# Altium footprint library QFN_Sq_50P_Side_M.PcbLib: 116 footprints (part 7 of 8)
Each footprint in its own frame and in the unit in brackets; x right, y up, seen from the top. Pads: shape width x height; smd on the part's side, far side on the other; paste and mask are expansions set on the pad; w line width, h text height; cw(c..) or ccw(c..) is an arc to the next point about the centre after c.
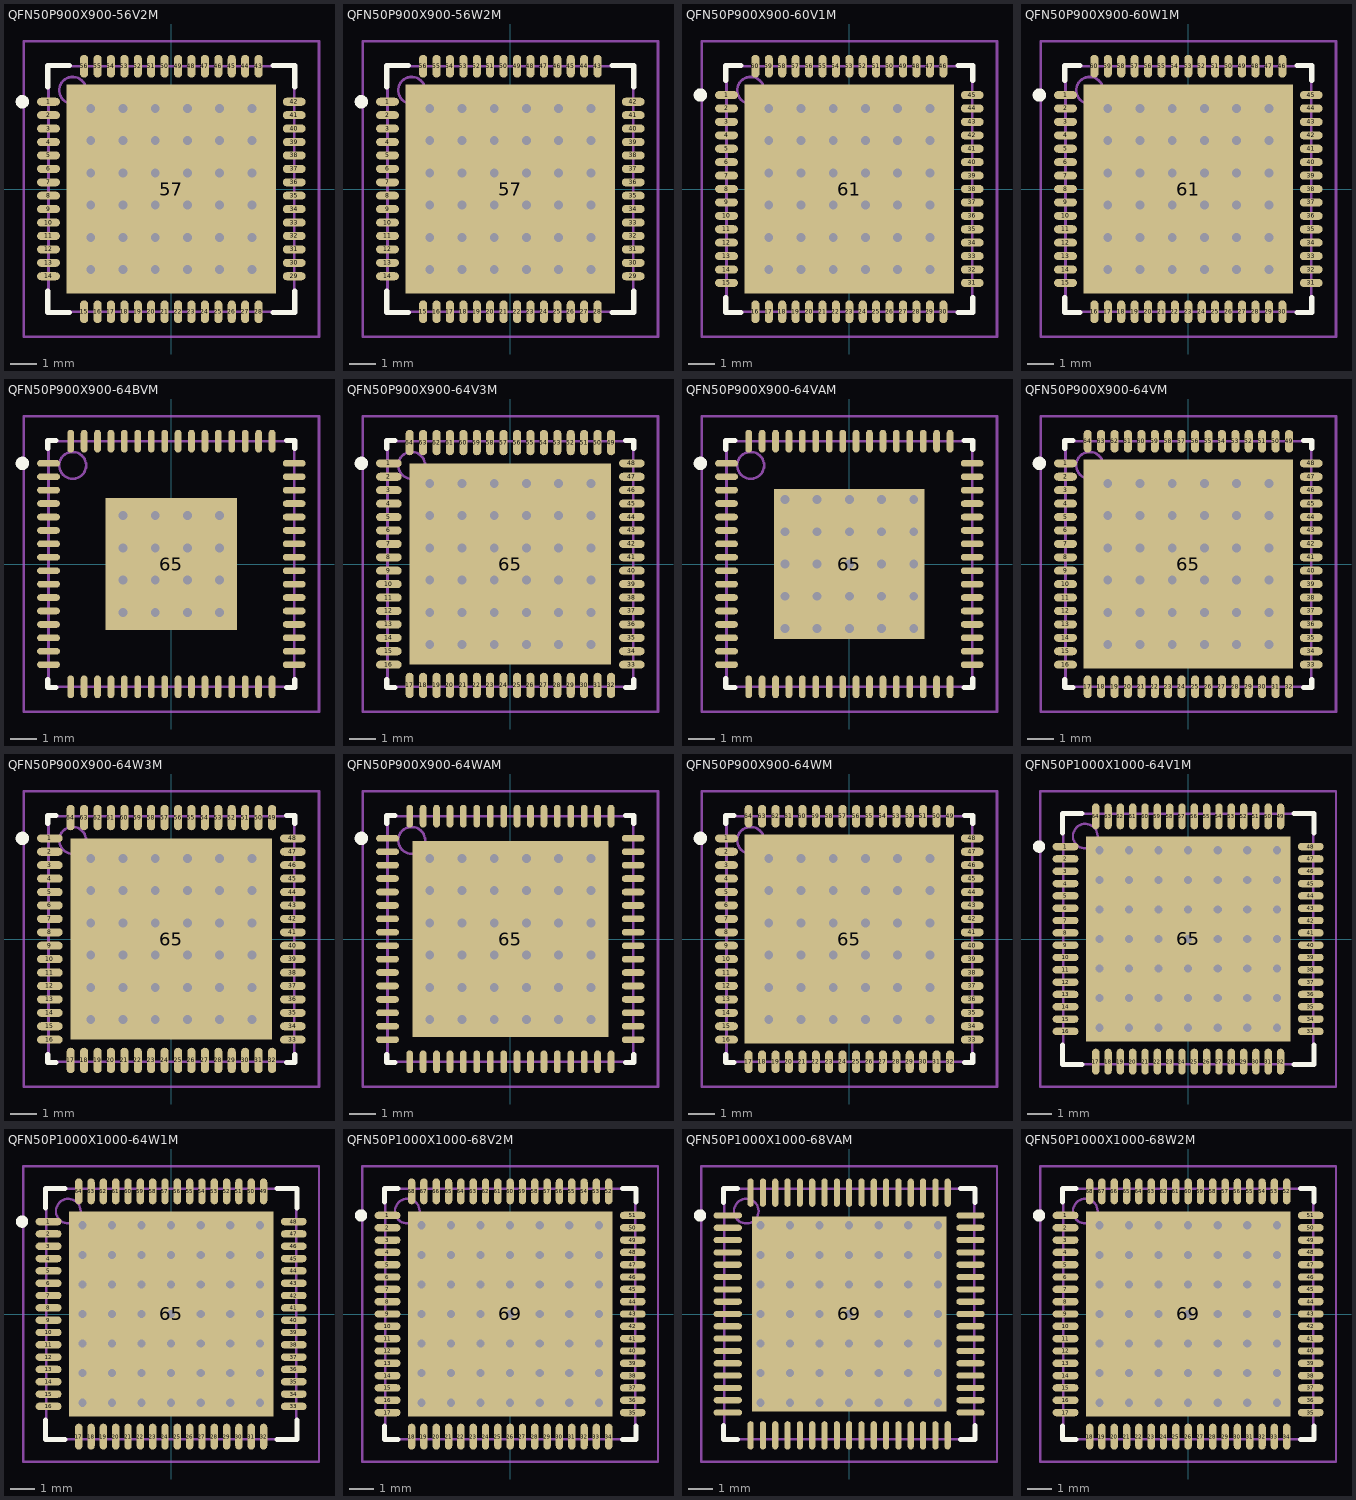
[diagram p6: the footprints below, top view; thin cyan lines are the x and y axes]

## QFN50P900X900-56V2M [mm] "QFN, 56-Leads, Body 9x9mm, Pitch 0.5mm, IPC Low Density"
height 1
pads (57):
  oval 0.85x0.3 smd: 1(-4.575,3.25) 2(-4.575,2.75) 3(-4.575,2.25) 4(-4.575,1.75) 5(-4.575,1.25) 6(-4.575,0.75) 7(-4.575,0.25) 8(-4.575,-0.25) 9(-4.575,-0.75) 10(-4.575,-1.25) 11(-4.575,-1.75) 12(-4.575,-2.25) 13(-4.575,-2.75) 14(-4.575,-3.25) 29(4.575,-3.25) 30(4.575,-2.75) 31(4.575,-2.25) 32(4.575,-1.75) 33(4.575,-1.25) 34(4.575,-0.75) 35(4.575,-0.25) 36(4.575,0.25) 37(4.575,0.75) 38(4.575,1.25) 39(4.575,1.75) 40(4.575,2.25) 41(4.575,2.75) 42(4.575,3.25)
  oval 0.3x0.85 smd: 15(-3.25,-4.575) 16(-2.75,-4.575) 17(-2.25,-4.575) 18(-1.75,-4.575) 19(-1.25,-4.575) 20(-0.75,-4.575) 21(-0.25,-4.575) 22(0.25,-4.575) 23(0.75,-4.575) 24(1.25,-4.575) 25(1.75,-4.575) 26(2.25,-4.575) 27(2.75,-4.575) 28(3.25,-4.575) 43(3.25,4.575) 44(2.75,4.575) 45(2.25,4.575) 46(1.75,4.575) 47(1.25,4.575) 48(0.75,4.575) 49(0.25,4.575) 50(-0.25,4.575) 51(-0.75,4.575) 52(-1.25,4.575) 53(-1.75,4.575) 54(-2.25,4.575) 55(-2.75,4.575) 56(-3.25,4.575)
  rect 7.8x7.8 smd: 57(0,0)
via -3,3 diameter 0.66 hole 0.33
via -1.8,3 diameter 0.66 hole 0.33
via -0.6,3 diameter 0.66 hole 0.33
via 0.6,3 diameter 0.66 hole 0.33
via 1.8,3 diameter 0.66 hole 0.33
via 3,3 diameter 0.66 hole 0.33
via -3,1.8 diameter 0.66 hole 0.33
via -1.8,1.8 diameter 0.66 hole 0.33
via -0.6,1.8 diameter 0.66 hole 0.33
via 0.6,1.8 diameter 0.66 hole 0.33
via 1.8,1.8 diameter 0.66 hole 0.33
via 3,1.8 diameter 0.66 hole 0.33
via -3,0.6 diameter 0.66 hole 0.33
via -1.8,0.6 diameter 0.66 hole 0.33
via -0.6,0.6 diameter 0.66 hole 0.33
via 0.6,0.6 diameter 0.66 hole 0.33
via 1.8,0.6 diameter 0.66 hole 0.33
via 3,0.6 diameter 0.66 hole 0.33
via -3,-0.6 diameter 0.66 hole 0.33
via -1.8,-0.6 diameter 0.66 hole 0.33
via -0.6,-0.6 diameter 0.66 hole 0.33
via 0.6,-0.6 diameter 0.66 hole 0.33
via 1.8,-0.6 diameter 0.66 hole 0.33
via 3,-0.6 diameter 0.66 hole 0.33
via -3,-1.8 diameter 0.66 hole 0.33
via -1.8,-1.8 diameter 0.66 hole 0.33
via -0.6,-1.8 diameter 0.66 hole 0.33
via 0.6,-1.8 diameter 0.66 hole 0.33
via 1.8,-1.8 diameter 0.66 hole 0.33
via 3,-1.8 diameter 0.66 hole 0.33
via -3,-3 diameter 0.66 hole 0.33
via -1.8,-3 diameter 0.66 hole 0.33
via -0.6,-3 diameter 0.66 hole 0.33
via 0.6,-3 diameter 0.66 hole 0.33
via 1.8,-3 diameter 0.66 hole 0.33
via 3,-3 diameter 0.66 hole 0.33
Top Overlay:
  circle w0.25: c-5.55,3.25 r0.125
  lines w0.2: -4.6,-3.8 -4.6,-4.6 -3.8,-4.6 ; -4.6,3.8 -4.6,4.6 -3.8,4.6 ; 3.8,-4.6 4.6,-4.6 4.6,-3.8 ; 3.8,4.6 4.6,4.6 4.6,3.8
Mechanical 13:
  circle w0.1: c-3.675,3.675 r0.5
  lines w0.1: -4.575,-4.575 -4.575,4.575 4.575,4.575 4.575,-4.575 -4.575,-4.575
Mechanical 15:
  lines w0.1: -0.5,0 0.5,0 ; 0,-0.5 0,0.5 ; -5.5,-5.5 -5.5,5.5 5.5,5.5 5.5,-5.5 -5.5,-5.5
3D body: height 1, standoff 0, extent -4.575,-4.575 4.575,4.575

## QFN50P900X900-56W2M [mm] "QFN, 56-Leads, Body 9x9mm, Pitch 0.5mm, IPC Low Density"
height 0.8
pads (57):
  oval 0.85x0.3 smd: 1(-4.575,3.25) 2(-4.575,2.75) 3(-4.575,2.25) 4(-4.575,1.75) 5(-4.575,1.25) 6(-4.575,0.75) 7(-4.575,0.25) 8(-4.575,-0.25) 9(-4.575,-0.75) 10(-4.575,-1.25) 11(-4.575,-1.75) 12(-4.575,-2.25) 13(-4.575,-2.75) 14(-4.575,-3.25) 29(4.575,-3.25) 30(4.575,-2.75) 31(4.575,-2.25) 32(4.575,-1.75) 33(4.575,-1.25) 34(4.575,-0.75) 35(4.575,-0.25) 36(4.575,0.25) 37(4.575,0.75) 38(4.575,1.25) 39(4.575,1.75) 40(4.575,2.25) 41(4.575,2.75) 42(4.575,3.25)
  oval 0.3x0.85 smd: 15(-3.25,-4.575) 16(-2.75,-4.575) 17(-2.25,-4.575) 18(-1.75,-4.575) 19(-1.25,-4.575) 20(-0.75,-4.575) 21(-0.25,-4.575) 22(0.25,-4.575) 23(0.75,-4.575) 24(1.25,-4.575) 25(1.75,-4.575) 26(2.25,-4.575) 27(2.75,-4.575) 28(3.25,-4.575) 43(3.25,4.575) 44(2.75,4.575) 45(2.25,4.575) 46(1.75,4.575) 47(1.25,4.575) 48(0.75,4.575) 49(0.25,4.575) 50(-0.25,4.575) 51(-0.75,4.575) 52(-1.25,4.575) 53(-1.75,4.575) 54(-2.25,4.575) 55(-2.75,4.575) 56(-3.25,4.575)
  rect 7.8x7.8 smd: 57(0,0)
via -3,3 diameter 0.66 hole 0.33
via -1.8,3 diameter 0.66 hole 0.33
via -0.6,3 diameter 0.66 hole 0.33
via 0.6,3 diameter 0.66 hole 0.33
via 1.8,3 diameter 0.66 hole 0.33
via 3,3 diameter 0.66 hole 0.33
via -3,1.8 diameter 0.66 hole 0.33
via -1.8,1.8 diameter 0.66 hole 0.33
via -0.6,1.8 diameter 0.66 hole 0.33
via 0.6,1.8 diameter 0.66 hole 0.33
via 1.8,1.8 diameter 0.66 hole 0.33
via 3,1.8 diameter 0.66 hole 0.33
via -3,0.6 diameter 0.66 hole 0.33
via -1.8,0.6 diameter 0.66 hole 0.33
via -0.6,0.6 diameter 0.66 hole 0.33
via 0.6,0.6 diameter 0.66 hole 0.33
via 1.8,0.6 diameter 0.66 hole 0.33
via 3,0.6 diameter 0.66 hole 0.33
via -3,-0.6 diameter 0.66 hole 0.33
via -1.8,-0.6 diameter 0.66 hole 0.33
via -0.6,-0.6 diameter 0.66 hole 0.33
via 0.6,-0.6 diameter 0.66 hole 0.33
via 1.8,-0.6 diameter 0.66 hole 0.33
via 3,-0.6 diameter 0.66 hole 0.33
via -3,-1.8 diameter 0.66 hole 0.33
via -1.8,-1.8 diameter 0.66 hole 0.33
via -0.6,-1.8 diameter 0.66 hole 0.33
via 0.6,-1.8 diameter 0.66 hole 0.33
via 1.8,-1.8 diameter 0.66 hole 0.33
via 3,-1.8 diameter 0.66 hole 0.33
via -3,-3 diameter 0.66 hole 0.33
via -1.8,-3 diameter 0.66 hole 0.33
via -0.6,-3 diameter 0.66 hole 0.33
via 0.6,-3 diameter 0.66 hole 0.33
via 1.8,-3 diameter 0.66 hole 0.33
via 3,-3 diameter 0.66 hole 0.33
Top Overlay:
  circle w0.25: c-5.55,3.25 r0.125
  lines w0.2: -4.6,-3.8 -4.6,-4.6 -3.8,-4.6 ; -4.6,3.8 -4.6,4.6 -3.8,4.6 ; 3.8,-4.6 4.6,-4.6 4.6,-3.8 ; 3.8,4.6 4.6,4.6 4.6,3.8
Mechanical 13:
  circle w0.1: c-3.675,3.675 r0.5
  lines w0.1: -4.575,-4.575 -4.575,4.575 4.575,4.575 4.575,-4.575 -4.575,-4.575
Mechanical 15:
  lines w0.1: -0.5,0 0.5,0 ; 0,-0.5 0,0.5 ; -5.5,-5.5 -5.5,5.5 5.5,5.5 5.5,-5.5 -5.5,-5.5
3D body: height 0.8, standoff 0, extent -4.575,-4.575 4.575,4.575

## QFN50P900X900-60V1M [mm] "QFN, 60-Leads, Body 9x9mm, Pitch 0.5mm, IPC Low Density"
height 1
pads (61):
  oval 0.85x0.3 smd: 1(-4.575,3.5) 2(-4.575,3) 3(-4.575,2.5) 4(-4.575,2) 5(-4.575,1.5) 6(-4.575,1) 7(-4.575,0.5) 8(-4.575,0) 9(-4.575,-0.5) 10(-4.575,-1) 11(-4.575,-1.5) 12(-4.575,-2) 13(-4.575,-2.5) 14(-4.575,-3) 15(-4.575,-3.5) 31(4.575,-3.5) 32(4.575,-3) 33(4.575,-2.5) 34(4.575,-2) 35(4.575,-1.5) 36(4.575,-1) 37(4.575,-0.5) 38(4.575,0) 39(4.575,0.5) 40(4.575,1) 41(4.575,1.5) 42(4.575,2) 43(4.575,2.5) 44(4.575,3) 45(4.575,3.5)
  oval 0.3x0.85 smd: 16(-3.5,-4.575) 17(-3,-4.575) 18(-2.5,-4.575) 19(-2,-4.575) 20(-1.5,-4.575) 21(-1,-4.575) 22(-0.5,-4.575) 23(0,-4.575) 24(0.5,-4.575) 25(1,-4.575) 26(1.5,-4.575) 27(2,-4.575) 28(2.5,-4.575) 29(3,-4.575) 30(3.5,-4.575) 46(3.5,4.575) 47(3,4.575) 48(2.5,4.575) 49(2,4.575) 50(1.5,4.575) 51(1,4.575) 52(0.5,4.575) 53(0,4.575) 54(-0.5,4.575) 55(-1,4.575) 56(-1.5,4.575) 57(-2,4.575) 58(-2.5,4.575) 59(-3,4.575) 60(-3.5,4.575)
  rect 7.8x7.8 smd: 61(0,0)
via -3,3 diameter 0.66 hole 0.33
via -1.8,3 diameter 0.66 hole 0.33
via -0.6,3 diameter 0.66 hole 0.33
via 0.6,3 diameter 0.66 hole 0.33
via 1.8,3 diameter 0.66 hole 0.33
via 3,3 diameter 0.66 hole 0.33
via -3,1.8 diameter 0.66 hole 0.33
via -1.8,1.8 diameter 0.66 hole 0.33
via -0.6,1.8 diameter 0.66 hole 0.33
via 0.6,1.8 diameter 0.66 hole 0.33
via 1.8,1.8 diameter 0.66 hole 0.33
via 3,1.8 diameter 0.66 hole 0.33
via -3,0.6 diameter 0.66 hole 0.33
via -1.8,0.6 diameter 0.66 hole 0.33
via -0.6,0.6 diameter 0.66 hole 0.33
via 0.6,0.6 diameter 0.66 hole 0.33
via 1.8,0.6 diameter 0.66 hole 0.33
via 3,0.6 diameter 0.66 hole 0.33
via -3,-0.6 diameter 0.66 hole 0.33
via -1.8,-0.6 diameter 0.66 hole 0.33
via -0.6,-0.6 diameter 0.66 hole 0.33
via 0.6,-0.6 diameter 0.66 hole 0.33
via 1.8,-0.6 diameter 0.66 hole 0.33
via 3,-0.6 diameter 0.66 hole 0.33
via -3,-1.8 diameter 0.66 hole 0.33
via -1.8,-1.8 diameter 0.66 hole 0.33
via -0.6,-1.8 diameter 0.66 hole 0.33
via 0.6,-1.8 diameter 0.66 hole 0.33
via 1.8,-1.8 diameter 0.66 hole 0.33
via 3,-1.8 diameter 0.66 hole 0.33
via -3,-3 diameter 0.66 hole 0.33
via -1.8,-3 diameter 0.66 hole 0.33
via -0.6,-3 diameter 0.66 hole 0.33
via 0.6,-3 diameter 0.66 hole 0.33
via 1.8,-3 diameter 0.66 hole 0.33
via 3,-3 diameter 0.66 hole 0.33
Top Overlay:
  circle w0.25: c-5.55,3.5 r0.125
  lines w0.2: -4.6,-4.05 -4.6,-4.6 -4.05,-4.6 ; -4.6,4.05 -4.6,4.6 -4.05,4.6 ; 4.05,-4.6 4.6,-4.6 4.6,-4.05 ; 4.05,4.6 4.6,4.6 4.6,4.05
Mechanical 13:
  circle w0.1: c-3.675,3.675 r0.5
  lines w0.1: -4.575,-4.575 -4.575,4.575 4.575,4.575 4.575,-4.575 -4.575,-4.575
Mechanical 15:
  lines w0.1: -0.5,0 0.5,0 ; 0,-0.5 0,0.5 ; -5.5,-5.5 -5.5,5.5 5.5,5.5 5.5,-5.5 -5.5,-5.5
3D body: height 1, standoff 0, extent -4.575,-4.575 4.575,4.575

## QFN50P900X900-60W1M [mm] "QFN, 60-Leads, Body 9x9mm, Pitch 0.5mm, IPC Low Density"
height 0.8
pads (61):
  oval 0.85x0.3 smd: 1(-4.575,3.5) 2(-4.575,3) 3(-4.575,2.5) 4(-4.575,2) 5(-4.575,1.5) 6(-4.575,1) 7(-4.575,0.5) 8(-4.575,0) 9(-4.575,-0.5) 10(-4.575,-1) 11(-4.575,-1.5) 12(-4.575,-2) 13(-4.575,-2.5) 14(-4.575,-3) 15(-4.575,-3.5) 31(4.575,-3.5) 32(4.575,-3) 33(4.575,-2.5) 34(4.575,-2) 35(4.575,-1.5) 36(4.575,-1) 37(4.575,-0.5) 38(4.575,0) 39(4.575,0.5) 40(4.575,1) 41(4.575,1.5) 42(4.575,2) 43(4.575,2.5) 44(4.575,3) 45(4.575,3.5)
  oval 0.3x0.85 smd: 16(-3.5,-4.575) 17(-3,-4.575) 18(-2.5,-4.575) 19(-2,-4.575) 20(-1.5,-4.575) 21(-1,-4.575) 22(-0.5,-4.575) 23(0,-4.575) 24(0.5,-4.575) 25(1,-4.575) 26(1.5,-4.575) 27(2,-4.575) 28(2.5,-4.575) 29(3,-4.575) 30(3.5,-4.575) 46(3.5,4.575) 47(3,4.575) 48(2.5,4.575) 49(2,4.575) 50(1.5,4.575) 51(1,4.575) 52(0.5,4.575) 53(0,4.575) 54(-0.5,4.575) 55(-1,4.575) 56(-1.5,4.575) 57(-2,4.575) 58(-2.5,4.575) 59(-3,4.575) 60(-3.5,4.575)
  rect 7.8x7.8 smd: 61(0,0)
via -3,3 diameter 0.66 hole 0.33
via -1.8,3 diameter 0.66 hole 0.33
via -0.6,3 diameter 0.66 hole 0.33
via 0.6,3 diameter 0.66 hole 0.33
via 1.8,3 diameter 0.66 hole 0.33
via 3,3 diameter 0.66 hole 0.33
via -3,1.8 diameter 0.66 hole 0.33
via -1.8,1.8 diameter 0.66 hole 0.33
via -0.6,1.8 diameter 0.66 hole 0.33
via 0.6,1.8 diameter 0.66 hole 0.33
via 1.8,1.8 diameter 0.66 hole 0.33
via 3,1.8 diameter 0.66 hole 0.33
via -3,0.6 diameter 0.66 hole 0.33
via -1.8,0.6 diameter 0.66 hole 0.33
via -0.6,0.6 diameter 0.66 hole 0.33
via 0.6,0.6 diameter 0.66 hole 0.33
via 1.8,0.6 diameter 0.66 hole 0.33
via 3,0.6 diameter 0.66 hole 0.33
via -3,-0.6 diameter 0.66 hole 0.33
via -1.8,-0.6 diameter 0.66 hole 0.33
via -0.6,-0.6 diameter 0.66 hole 0.33
via 0.6,-0.6 diameter 0.66 hole 0.33
via 1.8,-0.6 diameter 0.66 hole 0.33
via 3,-0.6 diameter 0.66 hole 0.33
via -3,-1.8 diameter 0.66 hole 0.33
via -1.8,-1.8 diameter 0.66 hole 0.33
via -0.6,-1.8 diameter 0.66 hole 0.33
via 0.6,-1.8 diameter 0.66 hole 0.33
via 1.8,-1.8 diameter 0.66 hole 0.33
via 3,-1.8 diameter 0.66 hole 0.33
via -3,-3 diameter 0.66 hole 0.33
via -1.8,-3 diameter 0.66 hole 0.33
via -0.6,-3 diameter 0.66 hole 0.33
via 0.6,-3 diameter 0.66 hole 0.33
via 1.8,-3 diameter 0.66 hole 0.33
via 3,-3 diameter 0.66 hole 0.33
Top Overlay:
  circle w0.25: c-5.55,3.5 r0.125
  lines w0.2: -4.6,-4.05 -4.6,-4.6 -4.05,-4.6 ; -4.6,4.05 -4.6,4.6 -4.05,4.6 ; 4.05,-4.6 4.6,-4.6 4.6,-4.05 ; 4.05,4.6 4.6,4.6 4.6,4.05
Mechanical 13:
  circle w0.1: c-3.675,3.675 r0.5
  lines w0.1: -4.575,-4.575 -4.575,4.575 4.575,4.575 4.575,-4.575 -4.575,-4.575
Mechanical 15:
  lines w0.1: -0.5,0 0.5,0 ; 0,-0.5 0,0.5 ; -5.5,-5.5 -5.5,5.5 5.5,5.5 5.5,-5.5 -5.5,-5.5
3D body: height 0.8, standoff 0, extent -4.575,-4.575 4.575,4.575

## QFN50P900X900-64BVM [mm] "QFN, 64-Leads, Body 9x9mm, Pitch 0.5mm, IPC Low Density"
height 1
pads (65):
  oval 0.85x0.25 smd: 1(-4.575,3.75) 2(-4.575,3.25) 3(-4.575,2.75) 4(-4.575,2.25) 5(-4.575,1.75) 6(-4.575,1.25) 7(-4.575,0.75) 8(-4.575,0.25) 9(-4.575,-0.25) 10(-4.575,-0.75) 11(-4.575,-1.25) 12(-4.575,-1.75) 13(-4.575,-2.25) 14(-4.575,-2.75) 15(-4.575,-3.25) 16(-4.575,-3.75) 33(4.575,-3.75) 34(4.575,-3.25) 35(4.575,-2.75) 36(4.575,-2.25) 37(4.575,-1.75) 38(4.575,-1.25) 39(4.575,-0.75) 40(4.575,-0.25) 41(4.575,0.25) 42(4.575,0.75) 43(4.575,1.25) 44(4.575,1.75) 45(4.575,2.25) 46(4.575,2.75) 47(4.575,3.25) 48(4.575,3.75)
  oval 0.25x0.85 smd: 17(-3.75,-4.575) 18(-3.25,-4.575) 19(-2.75,-4.575) 20(-2.25,-4.575) 21(-1.75,-4.575) 22(-1.25,-4.575) 23(-0.75,-4.575) 24(-0.25,-4.575) 25(0.25,-4.575) 26(0.75,-4.575) 27(1.25,-4.575) 28(1.75,-4.575) 29(2.25,-4.575) 30(2.75,-4.575) 31(3.25,-4.575) 32(3.75,-4.575) 49(3.75,4.575) 50(3.25,4.575) 51(2.75,4.575) 52(2.25,4.575) 53(1.75,4.575) 54(1.25,4.575) 55(0.75,4.575) 56(0.25,4.575) 57(-0.25,4.575) 58(-0.75,4.575) 59(-1.25,4.575) 60(-1.75,4.575) 61(-2.25,4.575) 62(-2.75,4.575) 63(-3.25,4.575) 64(-3.75,4.575)
  rect 4.9x4.9 smd: 65(0,0)
via 1.8,-1.8 diameter 0.66 hole 0.33
via 0.6,-1.8 diameter 0.66 hole 0.33
via -0.6,-1.8 diameter 0.66 hole 0.33
via -1.8,-1.8 diameter 0.66 hole 0.33
via 1.8,-0.6 diameter 0.66 hole 0.33
via 0.6,-0.6 diameter 0.66 hole 0.33
via -0.6,-0.6 diameter 0.66 hole 0.33
via -1.8,-0.6 diameter 0.66 hole 0.33
via 1.8,0.6 diameter 0.66 hole 0.33
via 0.6,0.6 diameter 0.66 hole 0.33
via -0.6,0.6 diameter 0.66 hole 0.33
via -1.8,0.6 diameter 0.66 hole 0.33
via 1.8,1.8 diameter 0.66 hole 0.33
via 0.6,1.8 diameter 0.66 hole 0.33
via -0.6,1.8 diameter 0.66 hole 0.33
via -1.8,1.8 diameter 0.66 hole 0.33
Top Overlay:
  circle w0.25: c-5.55,3.75 r0.125
  lines w0.2: -4.6,-4.3 -4.6,-4.6 -4.3,-4.6 ; -4.6,4.3 -4.6,4.6 -4.3,4.6 ; 4.3,-4.6 4.6,-4.6 4.6,-4.3 ; 4.3,4.6 4.6,4.6 4.6,4.3
Mechanical 13:
  circle w0.1: c-3.675,3.675 r0.5
  lines w0.1: -4.575,-4.575 4.575,-4.575 4.575,4.575 -4.575,4.575 -4.575,-4.575
Mechanical 15:
  lines w0.1: -0.5,0 0.5,0 ; 0,-0.5 0,0.5 ; -5.5,-5.5 5.5,-5.5 5.5,5.5 -5.5,5.5 -5.5,-5.5
3D body: height 0.8, standoff 0, extent -4.575,-4.575 4.575,4.575

## QFN50P900X900-64V3M [mm] "QFN, 64-Leads, Body 9x9mm, Pitch 0.5mm, IPC Low Density"
height 1
pads (65):
  oval 0.95x0.3 smd: 1(-4.525,3.75) 2(-4.525,3.25) 3(-4.525,2.75) 4(-4.525,2.25) 5(-4.525,1.75) 6(-4.525,1.25) 7(-4.525,0.75) 8(-4.525,0.25) 9(-4.525,-0.25) 10(-4.525,-0.75) 11(-4.525,-1.25) 12(-4.525,-1.75) 13(-4.525,-2.25) 14(-4.525,-2.75) 15(-4.525,-3.25) 16(-4.525,-3.75) 33(4.525,-3.75) 34(4.525,-3.25) 35(4.525,-2.75) 36(4.525,-2.25) 37(4.525,-1.75) 38(4.525,-1.25) 39(4.525,-0.75) 40(4.525,-0.25) 41(4.525,0.25) 42(4.525,0.75) 43(4.525,1.25) 44(4.525,1.75) 45(4.525,2.25) 46(4.525,2.75) 47(4.525,3.25) 48(4.525,3.75)
  oval 0.3x0.95 smd: 17(-3.75,-4.525) 18(-3.25,-4.525) 19(-2.75,-4.525) 20(-2.25,-4.525) 21(-1.75,-4.525) 22(-1.25,-4.525) 23(-0.75,-4.525) 24(-0.25,-4.525) 25(0.25,-4.525) 26(0.75,-4.525) 27(1.25,-4.525) 28(1.75,-4.525) 29(2.25,-4.525) 30(2.75,-4.525) 31(3.25,-4.525) 32(3.75,-4.525) 49(3.75,4.525) 50(3.25,4.525) 51(2.75,4.525) 52(2.25,4.525) 53(1.75,4.525) 54(1.25,4.525) 55(0.75,4.525) 56(0.25,4.525) 57(-0.25,4.525) 58(-0.75,4.525) 59(-1.25,4.525) 60(-1.75,4.525) 61(-2.25,4.525) 62(-2.75,4.525) 63(-3.25,4.525) 64(-3.75,4.525)
  rect 7.5x7.5 smd: 65(0,0)
via -3,3 diameter 0.66 hole 0.33
via -1.8,3 diameter 0.66 hole 0.33
via -0.6,3 diameter 0.66 hole 0.33
via 0.6,3 diameter 0.66 hole 0.33
via 1.8,3 diameter 0.66 hole 0.33
via 3,3 diameter 0.66 hole 0.33
via -3,1.8 diameter 0.66 hole 0.33
via -1.8,1.8 diameter 0.66 hole 0.33
via -0.6,1.8 diameter 0.66 hole 0.33
via 0.6,1.8 diameter 0.66 hole 0.33
via 1.8,1.8 diameter 0.66 hole 0.33
via 3,1.8 diameter 0.66 hole 0.33
via -3,0.6 diameter 0.66 hole 0.33
via -1.8,0.6 diameter 0.66 hole 0.33
via -0.6,0.6 diameter 0.66 hole 0.33
via 0.6,0.6 diameter 0.66 hole 0.33
via 1.8,0.6 diameter 0.66 hole 0.33
via 3,0.6 diameter 0.66 hole 0.33
via -3,-0.6 diameter 0.66 hole 0.33
via -1.8,-0.6 diameter 0.66 hole 0.33
via -0.6,-0.6 diameter 0.66 hole 0.33
via 0.6,-0.6 diameter 0.66 hole 0.33
via 1.8,-0.6 diameter 0.66 hole 0.33
via 3,-0.6 diameter 0.66 hole 0.33
via -3,-1.8 diameter 0.66 hole 0.33
via -1.8,-1.8 diameter 0.66 hole 0.33
via -0.6,-1.8 diameter 0.66 hole 0.33
via 0.6,-1.8 diameter 0.66 hole 0.33
via 1.8,-1.8 diameter 0.66 hole 0.33
via 3,-1.8 diameter 0.66 hole 0.33
via -3,-3 diameter 0.66 hole 0.33
via -1.8,-3 diameter 0.66 hole 0.33
via -0.6,-3 diameter 0.66 hole 0.33
via 0.6,-3 diameter 0.66 hole 0.33
via 1.8,-3 diameter 0.66 hole 0.33
via 3,-3 diameter 0.66 hole 0.33
Top Overlay:
  circle w0.25: c-5.55,3.75 r0.125
  lines w0.2: -4.6,-4.3 -4.6,-4.6 -4.3,-4.6 ; -4.6,4.3 -4.6,4.6 -4.3,4.6 ; 4.3,-4.6 4.6,-4.6 4.6,-4.3 ; 4.3,4.6 4.6,4.6 4.6,4.3
Mechanical 13:
  circle w0.1: c-3.675,3.675 r0.5
  lines w0.1: -4.575,-4.575 -4.575,4.575 4.575,4.575 4.575,-4.575 -4.575,-4.575
Mechanical 15:
  lines w0.1: -0.5,0 0.5,0 ; 0,-0.5 0,0.5 ; -5.5,-5.5 -5.5,5.5 5.5,5.5 5.5,-5.5 -5.5,-5.5
3D body: height 1, standoff 0, extent -4.575,-4.575 4.575,4.575

## QFN50P900X900-64VAM [mm] "QFN, 64-Leads, Body 9x9mm, Pitch 0.5mm, IPC Low Density"
height 1
pads (65):
  oval 0.85x0.25 smd: 1(-4.575,3.75) 2(-4.575,3.25) 3(-4.575,2.75) 4(-4.575,2.25) 5(-4.575,1.75) 6(-4.575,1.25) 7(-4.575,0.75) 8(-4.575,0.25) 9(-4.575,-0.25) 10(-4.575,-0.75) 11(-4.575,-1.25) 12(-4.575,-1.75) 13(-4.575,-2.25) 14(-4.575,-2.75) 15(-4.575,-3.25) 16(-4.575,-3.75) 33(4.575,-3.75) 34(4.575,-3.25) 35(4.575,-2.75) 36(4.575,-2.25) 37(4.575,-1.75) 38(4.575,-1.25) 39(4.575,-0.75) 40(4.575,-0.25) 41(4.575,0.25) 42(4.575,0.75) 43(4.575,1.25) 44(4.575,1.75) 45(4.575,2.25) 46(4.575,2.75) 47(4.575,3.25) 48(4.575,3.75)
  oval 0.25x0.85 smd: 17(-3.75,-4.575) 18(-3.25,-4.575) 19(-2.75,-4.575) 20(-2.25,-4.575) 21(-1.75,-4.575) 22(-1.25,-4.575) 23(-0.75,-4.575) 24(-0.25,-4.575) 25(0.25,-4.575) 26(0.75,-4.575) 27(1.25,-4.575) 28(1.75,-4.575) 29(2.25,-4.575) 30(2.75,-4.575) 31(3.25,-4.575) 32(3.75,-4.575) 49(3.75,4.575) 50(3.25,4.575) 51(2.75,4.575) 52(2.25,4.575) 53(1.75,4.575) 54(1.25,4.575) 55(0.75,4.575) 56(0.25,4.575) 57(-0.25,4.575) 58(-0.75,4.575) 59(-1.25,4.575) 60(-1.75,4.575) 61(-2.25,4.575) 62(-2.75,4.575) 63(-3.25,4.575) 64(-3.75,4.575)
  rect 5.6x5.6 smd: 65(0,0)
via 2.4,-2.4 diameter 0.66 hole 0.33
via 1.2,-2.4 diameter 0.66 hole 0.33
via 0,-2.4 diameter 0.66 hole 0.33
via -1.2,-2.4 diameter 0.66 hole 0.33
via -2.4,-2.4 diameter 0.66 hole 0.33
via 2.4,-1.2 diameter 0.66 hole 0.33
via 1.2,-1.2 diameter 0.66 hole 0.33
via 0,-1.2 diameter 0.66 hole 0.33
via -1.2,-1.2 diameter 0.66 hole 0.33
via -2.4,-1.2 diameter 0.66 hole 0.33
via 2.4,0 diameter 0.66 hole 0.33
via 1.2,0 diameter 0.66 hole 0.33
via 0,0 diameter 0.66 hole 0.33
via -1.2,0 diameter 0.66 hole 0.33
via -2.4,0 diameter 0.66 hole 0.33
via 2.4,1.2 diameter 0.66 hole 0.33
via 1.2,1.2 diameter 0.66 hole 0.33
via 0,1.2 diameter 0.66 hole 0.33
via -1.2,1.2 diameter 0.66 hole 0.33
via -2.4,1.2 diameter 0.66 hole 0.33
via 2.4,2.4 diameter 0.66 hole 0.33
via 1.2,2.4 diameter 0.66 hole 0.33
via 0,2.4 diameter 0.66 hole 0.33
via -1.2,2.4 diameter 0.66 hole 0.33
via -2.4,2.4 diameter 0.66 hole 0.33
Top Overlay:
  circle w0.25: c-5.55,3.75 r0.125
  lines w0.2: -4.6,-4.275 -4.6,-4.6 -4.275,-4.6 ; -4.6,4.275 -4.6,4.6 -4.275,4.6 ; 4.275,-4.6 4.6,-4.6 4.6,-4.275 ; 4.275,4.6 4.6,4.6 4.6,4.275
Mechanical 13:
  circle w0.1: c-3.675,3.675 r0.5
  lines w0.1: -4.575,-4.575 4.575,-4.575 4.575,4.575 -4.575,4.575 -4.575,-4.575
Mechanical 15:
  lines w0.1: -0.5,0 0.5,0 ; 0,-0.5 0,0.5 ; -5.5,-5.5 5.5,-5.5 5.5,5.5 -5.5,5.5 -5.5,-5.5
3D body: height 1, standoff 0, extent -4.575,-4.575 4.575,4.575

## QFN50P900X900-64VM [mm] "QFN, 64-Leads, Body 9x9mm, Pitch 0.5mm, IPC Low Density"
height 1
pads (65):
  oval 0.85x0.3 smd: 1(-4.575,3.75) 2(-4.575,3.25) 3(-4.575,2.75) 4(-4.575,2.25) 5(-4.575,1.75) 6(-4.575,1.25) 7(-4.575,0.75) 8(-4.575,0.25) 9(-4.575,-0.25) 10(-4.575,-0.75) 11(-4.575,-1.25) 12(-4.575,-1.75) 13(-4.575,-2.25) 14(-4.575,-2.75) 15(-4.575,-3.25) 16(-4.575,-3.75) 33(4.575,-3.75) 34(4.575,-3.25) 35(4.575,-2.75) 36(4.575,-2.25) 37(4.575,-1.75) 38(4.575,-1.25) 39(4.575,-0.75) 40(4.575,-0.25) 41(4.575,0.25) 42(4.575,0.75) 43(4.575,1.25) 44(4.575,1.75) 45(4.575,2.25) 46(4.575,2.75) 47(4.575,3.25) 48(4.575,3.75)
  oval 0.3x0.85 smd: 17(-3.75,-4.575) 18(-3.25,-4.575) 19(-2.75,-4.575) 20(-2.25,-4.575) 21(-1.75,-4.575) 22(-1.25,-4.575) 23(-0.75,-4.575) 24(-0.25,-4.575) 25(0.25,-4.575) 26(0.75,-4.575) 27(1.25,-4.575) 28(1.75,-4.575) 29(2.25,-4.575) 30(2.75,-4.575) 31(3.25,-4.575) 32(3.75,-4.575) 49(3.75,4.575) 50(3.25,4.575) 51(2.75,4.575) 52(2.25,4.575) 53(1.75,4.575) 54(1.25,4.575) 55(0.75,4.575) 56(0.25,4.575) 57(-0.25,4.575) 58(-0.75,4.575) 59(-1.25,4.575) 60(-1.75,4.575) 61(-2.25,4.575) 62(-2.75,4.575) 63(-3.25,4.575) 64(-3.75,4.575)
  rect 7.8x7.8 smd: 65(0,0)
via -3,3 diameter 0.66 hole 0.33
via -1.8,3 diameter 0.66 hole 0.33
via -0.6,3 diameter 0.66 hole 0.33
via 0.6,3 diameter 0.66 hole 0.33
via 1.8,3 diameter 0.66 hole 0.33
via 3,3 diameter 0.66 hole 0.33
via -3,1.8 diameter 0.66 hole 0.33
via -1.8,1.8 diameter 0.66 hole 0.33
via -0.6,1.8 diameter 0.66 hole 0.33
via 0.6,1.8 diameter 0.66 hole 0.33
via 1.8,1.8 diameter 0.66 hole 0.33
via 3,1.8 diameter 0.66 hole 0.33
via -3,0.6 diameter 0.66 hole 0.33
via -1.8,0.6 diameter 0.66 hole 0.33
via -0.6,0.6 diameter 0.66 hole 0.33
via 0.6,0.6 diameter 0.66 hole 0.33
via 1.8,0.6 diameter 0.66 hole 0.33
via 3,0.6 diameter 0.66 hole 0.33
via -3,-0.6 diameter 0.66 hole 0.33
via -1.8,-0.6 diameter 0.66 hole 0.33
via -0.6,-0.6 diameter 0.66 hole 0.33
via 0.6,-0.6 diameter 0.66 hole 0.33
via 1.8,-0.6 diameter 0.66 hole 0.33
via 3,-0.6 diameter 0.66 hole 0.33
via -3,-1.8 diameter 0.66 hole 0.33
via -1.8,-1.8 diameter 0.66 hole 0.33
via -0.6,-1.8 diameter 0.66 hole 0.33
via 0.6,-1.8 diameter 0.66 hole 0.33
via 1.8,-1.8 diameter 0.66 hole 0.33
via 3,-1.8 diameter 0.66 hole 0.33
via -3,-3 diameter 0.66 hole 0.33
via -1.8,-3 diameter 0.66 hole 0.33
via -0.6,-3 diameter 0.66 hole 0.33
via 0.6,-3 diameter 0.66 hole 0.33
via 1.8,-3 diameter 0.66 hole 0.33
via 3,-3 diameter 0.66 hole 0.33
Top Overlay:
  circle w0.25: c-5.55,3.75 r0.125
  lines w0.2: -4.6,-4.3 -4.6,-4.6 -4.3,-4.6 ; -4.6,4.3 -4.6,4.6 -4.3,4.6 ; 4.3,-4.6 4.6,-4.6 4.6,-4.3 ; 4.3,4.6 4.6,4.6 4.6,4.3
Mechanical 13:
  circle w0.1: c-3.675,3.675 r0.5
  lines w0.1: -4.575,-4.575 -4.575,4.575 4.575,4.575 4.575,-4.575 -4.575,-4.575
Mechanical 15:
  lines w0.1: -0.5,0 0.5,0 ; 0,-0.5 0,0.5 ; -5.5,-5.5 -5.5,5.5 5.5,5.5 5.5,-5.5 -5.5,-5.5
3D body: height 1, standoff 0, extent -4.575,-4.575 4.575,4.575

## QFN50P900X900-64W3M [mm] "QFN, 64-Leads, Body 9x9mm, Pitch 0.5mm, IPC Low Density"
height 0.8
pads (65):
  oval 0.95x0.3 smd: 1(-4.525,3.75) 2(-4.525,3.25) 3(-4.525,2.75) 4(-4.525,2.25) 5(-4.525,1.75) 6(-4.525,1.25) 7(-4.525,0.75) 8(-4.525,0.25) 9(-4.525,-0.25) 10(-4.525,-0.75) 11(-4.525,-1.25) 12(-4.525,-1.75) 13(-4.525,-2.25) 14(-4.525,-2.75) 15(-4.525,-3.25) 16(-4.525,-3.75) 33(4.525,-3.75) 34(4.525,-3.25) 35(4.525,-2.75) 36(4.525,-2.25) 37(4.525,-1.75) 38(4.525,-1.25) 39(4.525,-0.75) 40(4.525,-0.25) 41(4.525,0.25) 42(4.525,0.75) 43(4.525,1.25) 44(4.525,1.75) 45(4.525,2.25) 46(4.525,2.75) 47(4.525,3.25) 48(4.525,3.75)
  oval 0.3x0.95 smd: 17(-3.75,-4.525) 18(-3.25,-4.525) 19(-2.75,-4.525) 20(-2.25,-4.525) 21(-1.75,-4.525) 22(-1.25,-4.525) 23(-0.75,-4.525) 24(-0.25,-4.525) 25(0.25,-4.525) 26(0.75,-4.525) 27(1.25,-4.525) 28(1.75,-4.525) 29(2.25,-4.525) 30(2.75,-4.525) 31(3.25,-4.525) 32(3.75,-4.525) 49(3.75,4.525) 50(3.25,4.525) 51(2.75,4.525) 52(2.25,4.525) 53(1.75,4.525) 54(1.25,4.525) 55(0.75,4.525) 56(0.25,4.525) 57(-0.25,4.525) 58(-0.75,4.525) 59(-1.25,4.525) 60(-1.75,4.525) 61(-2.25,4.525) 62(-2.75,4.525) 63(-3.25,4.525) 64(-3.75,4.525)
  rect 7.5x7.5 smd: 65(0,0)
via -3,3 diameter 0.66 hole 0.33
via -1.8,3 diameter 0.66 hole 0.33
via -0.6,3 diameter 0.66 hole 0.33
via 0.6,3 diameter 0.66 hole 0.33
via 1.8,3 diameter 0.66 hole 0.33
via 3,3 diameter 0.66 hole 0.33
via -3,1.8 diameter 0.66 hole 0.33
via -1.8,1.8 diameter 0.66 hole 0.33
via -0.6,1.8 diameter 0.66 hole 0.33
via 0.6,1.8 diameter 0.66 hole 0.33
via 1.8,1.8 diameter 0.66 hole 0.33
via 3,1.8 diameter 0.66 hole 0.33
via -3,0.6 diameter 0.66 hole 0.33
via -1.8,0.6 diameter 0.66 hole 0.33
via -0.6,0.6 diameter 0.66 hole 0.33
via 0.6,0.6 diameter 0.66 hole 0.33
via 1.8,0.6 diameter 0.66 hole 0.33
via 3,0.6 diameter 0.66 hole 0.33
via -3,-0.6 diameter 0.66 hole 0.33
via -1.8,-0.6 diameter 0.66 hole 0.33
via -0.6,-0.6 diameter 0.66 hole 0.33
via 0.6,-0.6 diameter 0.66 hole 0.33
via 1.8,-0.6 diameter 0.66 hole 0.33
via 3,-0.6 diameter 0.66 hole 0.33
via -3,-1.8 diameter 0.66 hole 0.33
via -1.8,-1.8 diameter 0.66 hole 0.33
via -0.6,-1.8 diameter 0.66 hole 0.33
via 0.6,-1.8 diameter 0.66 hole 0.33
via 1.8,-1.8 diameter 0.66 hole 0.33
via 3,-1.8 diameter 0.66 hole 0.33
via -3,-3 diameter 0.66 hole 0.33
via -1.8,-3 diameter 0.66 hole 0.33
via -0.6,-3 diameter 0.66 hole 0.33
via 0.6,-3 diameter 0.66 hole 0.33
via 1.8,-3 diameter 0.66 hole 0.33
via 3,-3 diameter 0.66 hole 0.33
Top Overlay:
  circle w0.25: c-5.55,3.75 r0.125
  lines w0.2: -4.6,-4.3 -4.6,-4.6 -4.3,-4.6 ; -4.6,4.3 -4.6,4.6 -4.3,4.6 ; 4.3,-4.6 4.6,-4.6 4.6,-4.3 ; 4.3,4.6 4.6,4.6 4.6,4.3
Mechanical 13:
  circle w0.1: c-3.675,3.675 r0.5
  lines w0.1: -4.575,-4.575 -4.575,4.575 4.575,4.575 4.575,-4.575 -4.575,-4.575
Mechanical 15:
  lines w0.1: -0.5,0 0.5,0 ; 0,-0.5 0,0.5 ; -5.5,-5.5 -5.5,5.5 5.5,5.5 5.5,-5.5 -5.5,-5.5
3D body: height 0.8, standoff 0, extent -4.575,-4.575 4.575,4.575

## QFN50P900X900-64WAM [mm] "QFN, 64-Leads, Body 9x9mm, Pitch 0.5mm, IPC Low Density"
height 0.9
pads (65):
  oval 0.85x0.25 smd: 1(-4.575,3.75) 2(-4.575,3.25) 3(-4.575,2.75) 4(-4.575,2.25) 5(-4.575,1.75) 6(-4.575,1.25) 7(-4.575,0.75) 8(-4.575,0.25) 9(-4.575,-0.25) 10(-4.575,-0.75) 11(-4.575,-1.25) 12(-4.575,-1.75) 13(-4.575,-2.25) 14(-4.575,-2.75) 15(-4.575,-3.25) 16(-4.575,-3.75) 33(4.575,-3.75) 34(4.575,-3.25) 35(4.575,-2.75) 36(4.575,-2.25) 37(4.575,-1.75) 38(4.575,-1.25) 39(4.575,-0.75) 40(4.575,-0.25) 41(4.575,0.25) 42(4.575,0.75) 43(4.575,1.25) 44(4.575,1.75) 45(4.575,2.25) 46(4.575,2.75) 47(4.575,3.25) 48(4.575,3.75)
  oval 0.25x0.85 smd: 17(-3.75,-4.575) 18(-3.25,-4.575) 19(-2.75,-4.575) 20(-2.25,-4.575) 21(-1.75,-4.575) 22(-1.25,-4.575) 23(-0.75,-4.575) 24(-0.25,-4.575) 25(0.25,-4.575) 26(0.75,-4.575) 27(1.25,-4.575) 28(1.75,-4.575) 29(2.25,-4.575) 30(2.75,-4.575) 31(3.25,-4.575) 32(3.75,-4.575) 49(3.75,4.575) 50(3.25,4.575) 51(2.75,4.575) 52(2.25,4.575) 53(1.75,4.575) 54(1.25,4.575) 55(0.75,4.575) 56(0.25,4.575) 57(-0.25,4.575) 58(-0.75,4.575) 59(-1.25,4.575) 60(-1.75,4.575) 61(-2.25,4.575) 62(-2.75,4.575) 63(-3.25,4.575) 64(-3.75,4.575)
  rect 7.3x7.3 smd: 65(0,0)
via -3,3 diameter 0.66 hole 0.33
via -1.8,3 diameter 0.66 hole 0.33
via -0.6,3 diameter 0.66 hole 0.33
via 0.6,3 diameter 0.66 hole 0.33
via 1.8,3 diameter 0.66 hole 0.33
via 3,3 diameter 0.66 hole 0.33
via -3,1.8 diameter 0.66 hole 0.33
via -1.8,1.8 diameter 0.66 hole 0.33
via -0.6,1.8 diameter 0.66 hole 0.33
via 0.6,1.8 diameter 0.66 hole 0.33
via 1.8,1.8 diameter 0.66 hole 0.33
via 3,1.8 diameter 0.66 hole 0.33
via -3,0.6 diameter 0.66 hole 0.33
via -1.8,0.6 diameter 0.66 hole 0.33
via -0.6,0.6 diameter 0.66 hole 0.33
via 0.6,0.6 diameter 0.66 hole 0.33
via 1.8,0.6 diameter 0.66 hole 0.33
via 3,0.6 diameter 0.66 hole 0.33
via -3,-0.6 diameter 0.66 hole 0.33
via -1.8,-0.6 diameter 0.66 hole 0.33
via -0.6,-0.6 diameter 0.66 hole 0.33
via 0.6,-0.6 diameter 0.66 hole 0.33
via 1.8,-0.6 diameter 0.66 hole 0.33
via 3,-0.6 diameter 0.66 hole 0.33
via -3,-1.8 diameter 0.66 hole 0.33
via -1.8,-1.8 diameter 0.66 hole 0.33
via -0.6,-1.8 diameter 0.66 hole 0.33
via 0.6,-1.8 diameter 0.66 hole 0.33
via 1.8,-1.8 diameter 0.66 hole 0.33
via 3,-1.8 diameter 0.66 hole 0.33
via -3,-3 diameter 0.66 hole 0.33
via -1.8,-3 diameter 0.66 hole 0.33
via -0.6,-3 diameter 0.66 hole 0.33
via 0.6,-3 diameter 0.66 hole 0.33
via 1.8,-3 diameter 0.66 hole 0.33
via 3,-3 diameter 0.66 hole 0.33
Top Overlay:
  circle w0.25: c-5.55,3.75 r0.125
  lines w0.2: -4.6,-4.3 -4.6,-4.6 -4.3,-4.6 ; -4.6,4.3 -4.6,4.6 -4.3,4.6 ; 4.3,-4.6 4.6,-4.6 4.6,-4.3 ; 4.3,4.6 4.6,4.6 4.6,4.3
Mechanical 13:
  circle w0.1: c-3.675,3.675 r0.5
  lines w0.1: -4.575,-4.575 -4.575,4.575 4.575,4.575 4.575,-4.575 -4.575,-4.575
Mechanical 15:
  lines w0.1: -0.5,0 0.5,0 ; 0,-0.5 0,0.5 ; -5.5,-5.5 -5.5,5.5 5.5,5.5 5.5,-5.5 -5.5,-5.5
3D body: height 0.8, standoff 0, extent -4.575,-4.575 4.575,4.575

## QFN50P900X900-64WM [mm] "QFN, 64-Leads, Body 9x9mm, Pitch 0.5mm, IPC Low Density"
height 0.8
pads (65):
  oval 0.85x0.3 smd: 1(-4.575,3.75) 2(-4.575,3.25) 3(-4.575,2.75) 4(-4.575,2.25) 5(-4.575,1.75) 6(-4.575,1.25) 7(-4.575,0.75) 8(-4.575,0.25) 9(-4.575,-0.25) 10(-4.575,-0.75) 11(-4.575,-1.25) 12(-4.575,-1.75) 13(-4.575,-2.25) 14(-4.575,-2.75) 15(-4.575,-3.25) 16(-4.575,-3.75) 33(4.575,-3.75) 34(4.575,-3.25) 35(4.575,-2.75) 36(4.575,-2.25) 37(4.575,-1.75) 38(4.575,-1.25) 39(4.575,-0.75) 40(4.575,-0.25) 41(4.575,0.25) 42(4.575,0.75) 43(4.575,1.25) 44(4.575,1.75) 45(4.575,2.25) 46(4.575,2.75) 47(4.575,3.25) 48(4.575,3.75)
  oval 0.3x0.85 smd: 17(-3.75,-4.575) 18(-3.25,-4.575) 19(-2.75,-4.575) 20(-2.25,-4.575) 21(-1.75,-4.575) 22(-1.25,-4.575) 23(-0.75,-4.575) 24(-0.25,-4.575) 25(0.25,-4.575) 26(0.75,-4.575) 27(1.25,-4.575) 28(1.75,-4.575) 29(2.25,-4.575) 30(2.75,-4.575) 31(3.25,-4.575) 32(3.75,-4.575) 49(3.75,4.575) 50(3.25,4.575) 51(2.75,4.575) 52(2.25,4.575) 53(1.75,4.575) 54(1.25,4.575) 55(0.75,4.575) 56(0.25,4.575) 57(-0.25,4.575) 58(-0.75,4.575) 59(-1.25,4.575) 60(-1.75,4.575) 61(-2.25,4.575) 62(-2.75,4.575) 63(-3.25,4.575) 64(-3.75,4.575)
  rect 7.8x7.8 smd: 65(0,0)
via 3,-3 diameter 0.66 hole 0.33
via 1.8,-3 diameter 0.66 hole 0.33
via 0.6,-3 diameter 0.66 hole 0.33
via -0.6,-3 diameter 0.66 hole 0.33
via -1.8,-3 diameter 0.66 hole 0.33
via -3,-3 diameter 0.66 hole 0.33
via 3,-1.8 diameter 0.66 hole 0.33
via 1.8,-1.8 diameter 0.66 hole 0.33
via 0.6,-1.8 diameter 0.66 hole 0.33
via -0.6,-1.8 diameter 0.66 hole 0.33
via -1.8,-1.8 diameter 0.66 hole 0.33
via -3,-1.8 diameter 0.66 hole 0.33
via 3,-0.6 diameter 0.66 hole 0.33
via 1.8,-0.6 diameter 0.66 hole 0.33
via 0.6,-0.6 diameter 0.66 hole 0.33
via -0.6,-0.6 diameter 0.66 hole 0.33
via -1.8,-0.6 diameter 0.66 hole 0.33
via -3,-0.6 diameter 0.66 hole 0.33
via 3,0.6 diameter 0.66 hole 0.33
via 1.8,0.6 diameter 0.66 hole 0.33
via 0.6,0.6 diameter 0.66 hole 0.33
via -0.6,0.6 diameter 0.66 hole 0.33
via -1.8,0.6 diameter 0.66 hole 0.33
via -3,0.6 diameter 0.66 hole 0.33
via 3,1.8 diameter 0.66 hole 0.33
via 1.8,1.8 diameter 0.66 hole 0.33
via 0.6,1.8 diameter 0.66 hole 0.33
via -0.6,1.8 diameter 0.66 hole 0.33
via -1.8,1.8 diameter 0.66 hole 0.33
via -3,1.8 diameter 0.66 hole 0.33
via 3,3 diameter 0.66 hole 0.33
via 1.8,3 diameter 0.66 hole 0.33
via 0.6,3 diameter 0.66 hole 0.33
via -0.6,3 diameter 0.66 hole 0.33
via -1.8,3 diameter 0.66 hole 0.33
via -3,3 diameter 0.66 hole 0.33
Top Overlay:
  circle w0.25: c-5.55,3.75 r0.125
  lines w0.2: -4.6,-4.3 -4.6,-4.6 -4.3,-4.6 ; -4.6,4.3 -4.6,4.6 -4.3,4.6 ; 4.3,-4.6 4.6,-4.6 4.6,-4.3 ; 4.3,4.6 4.6,4.6 4.6,4.3
Mechanical 13:
  circle w0.1: c-3.675,3.675 r0.5
  lines w0.1: -4.575,-4.575 4.575,-4.575 4.575,4.575 -4.575,4.575 -4.575,-4.575
Mechanical 15:
  lines w0.1: -0.5,0 0.5,0 ; 0,-0.5 0,0.5 ; -5.5,-5.5 5.5,-5.5 5.5,5.5 -5.5,5.5 -5.5,-5.5
3D body: height 0.8, standoff 0, extent -4.575,-4.575 4.575,4.575

## QFN50P1000X1000-64V1M [mm] "QFN, 64-Leads, Body 10x10mm, Pitch 0.5mm, IPC Low Density"
height 1
pads (65):
  oval 1.05x0.3 smd: 1(-4.975,3.75) 2(-4.975,3.25) 3(-4.975,2.75) 4(-4.975,2.25) 5(-4.975,1.75) 6(-4.975,1.25) 7(-4.975,0.75) 8(-4.975,0.25) 9(-4.975,-0.25) 10(-4.975,-0.75) 11(-4.975,-1.25) 12(-4.975,-1.75) 13(-4.975,-2.25) 14(-4.975,-2.75) 15(-4.975,-3.25) 16(-4.975,-3.75) 33(4.975,-3.75) 34(4.975,-3.25) 35(4.975,-2.75) 36(4.975,-2.25) 37(4.975,-1.75) 38(4.975,-1.25) 39(4.975,-0.75) 40(4.975,-0.25) 41(4.975,0.25) 42(4.975,0.75) 43(4.975,1.25) 44(4.975,1.75) 45(4.975,2.25) 46(4.975,2.75) 47(4.975,3.25) 48(4.975,3.75)
  oval 0.3x1.05 smd: 17(-3.75,-4.975) 18(-3.25,-4.975) 19(-2.75,-4.975) 20(-2.25,-4.975) 21(-1.75,-4.975) 22(-1.25,-4.975) 23(-0.75,-4.975) 24(-0.25,-4.975) 25(0.25,-4.975) 26(0.75,-4.975) 27(1.25,-4.975) 28(1.75,-4.975) 29(2.25,-4.975) 30(2.75,-4.975) 31(3.25,-4.975) 32(3.75,-4.975) 49(3.75,4.975) 50(3.25,4.975) 51(2.75,4.975) 52(2.25,4.975) 53(1.75,4.975) 54(1.25,4.975) 55(0.75,4.975) 56(0.25,4.975) 57(-0.25,4.975) 58(-0.75,4.975) 59(-1.25,4.975) 60(-1.75,4.975) 61(-2.25,4.975) 62(-2.75,4.975) 63(-3.25,4.975) 64(-3.75,4.975)
  rect 8.3x8.3 smd: 65(0,0)
via -3.6,3.6 diameter 0.66 hole 0.33
via -2.4,3.6 diameter 0.66 hole 0.33
via -1.2,3.6 diameter 0.66 hole 0.33
via 0,3.6 diameter 0.66 hole 0.33
via 1.2,3.6 diameter 0.66 hole 0.33
via 2.4,3.6 diameter 0.66 hole 0.33
via 3.6,3.6 diameter 0.66 hole 0.33
via -3.6,2.4 diameter 0.66 hole 0.33
via -2.4,2.4 diameter 0.66 hole 0.33
via -1.2,2.4 diameter 0.66 hole 0.33
via 0,2.4 diameter 0.66 hole 0.33
via 1.2,2.4 diameter 0.66 hole 0.33
via 2.4,2.4 diameter 0.66 hole 0.33
via 3.6,2.4 diameter 0.66 hole 0.33
via -3.6,1.2 diameter 0.66 hole 0.33
via -2.4,1.2 diameter 0.66 hole 0.33
via -1.2,1.2 diameter 0.66 hole 0.33
via 0,1.2 diameter 0.66 hole 0.33
via 1.2,1.2 diameter 0.66 hole 0.33
via 2.4,1.2 diameter 0.66 hole 0.33
via 3.6,1.2 diameter 0.66 hole 0.33
via -3.6,0 diameter 0.66 hole 0.33
via -2.4,0 diameter 0.66 hole 0.33
via -1.2,0 diameter 0.66 hole 0.33
via 0,0 diameter 0.66 hole 0.33
via 1.2,0 diameter 0.66 hole 0.33
via 2.4,0 diameter 0.66 hole 0.33
via 3.6,0 diameter 0.66 hole 0.33
via -3.6,-1.2 diameter 0.66 hole 0.33
via -2.4,-1.2 diameter 0.66 hole 0.33
via -1.2,-1.2 diameter 0.66 hole 0.33
via 0,-1.2 diameter 0.66 hole 0.33
via 1.2,-1.2 diameter 0.66 hole 0.33
via 2.4,-1.2 diameter 0.66 hole 0.33
via 3.6,-1.2 diameter 0.66 hole 0.33
via -3.6,-2.4 diameter 0.66 hole 0.33
via -2.4,-2.4 diameter 0.66 hole 0.33
via -1.2,-2.4 diameter 0.66 hole 0.33
via 0,-2.4 diameter 0.66 hole 0.33
via 1.2,-2.4 diameter 0.66 hole 0.33
via 2.4,-2.4 diameter 0.66 hole 0.33
via 3.6,-2.4 diameter 0.66 hole 0.33
via -3.6,-3.6 diameter 0.66 hole 0.33
via -2.4,-3.6 diameter 0.66 hole 0.33
via -1.2,-3.6 diameter 0.66 hole 0.33
via 0,-3.6 diameter 0.66 hole 0.33
via 1.2,-3.6 diameter 0.66 hole 0.33
via 2.4,-3.6 diameter 0.66 hole 0.33
via 3.6,-3.6 diameter 0.66 hole 0.33
Top Overlay:
  circle w0.25: c-6.05,3.75 r0.125
  lines w0.2: -5.1,-4.3 -5.1,-5.1 -4.3,-5.1 ; -5.1,4.3 -5.1,5.1 -4.3,5.1 ; 4.3,-5.1 5.1,-5.1 5.1,-4.3 ; 4.3,5.1 5.1,5.1 5.1,4.3
Mechanical 13:
  circle w0.1: c-4.175,4.175 r0.5
  lines w0.1: -5.075,-5.075 -5.075,5.075 5.075,5.075 5.075,-5.075 -5.075,-5.075
Mechanical 15:
  lines w0.1: -0.5,0 0.5,0 ; 0,-0.5 0,0.5 ; -6,-6 -6,6 6,6 6,-6 -6,-6
3D body: height 1, standoff 0, extent -5.075,-5.075 5.075,5.075

## QFN50P1000X1000-64W1M [mm] "QFN, 64-Leads, Body 10x10mm, Pitch 0.5mm, IPC Low Density"
height 0.8
pads (65):
  oval 1.05x0.3 smd: 1(-4.975,3.75) 2(-4.975,3.25) 3(-4.975,2.75) 4(-4.975,2.25) 5(-4.975,1.75) 6(-4.975,1.25) 7(-4.975,0.75) 8(-4.975,0.25) 9(-4.975,-0.25) 10(-4.975,-0.75) 11(-4.975,-1.25) 12(-4.975,-1.75) 13(-4.975,-2.25) 14(-4.975,-2.75) 15(-4.975,-3.25) 16(-4.975,-3.75) 33(4.975,-3.75) 34(4.975,-3.25) 35(4.975,-2.75) 36(4.975,-2.25) 37(4.975,-1.75) 38(4.975,-1.25) 39(4.975,-0.75) 40(4.975,-0.25) 41(4.975,0.25) 42(4.975,0.75) 43(4.975,1.25) 44(4.975,1.75) 45(4.975,2.25) 46(4.975,2.75) 47(4.975,3.25) 48(4.975,3.75)
  oval 0.3x1.05 smd: 17(-3.75,-4.975) 18(-3.25,-4.975) 19(-2.75,-4.975) 20(-2.25,-4.975) 21(-1.75,-4.975) 22(-1.25,-4.975) 23(-0.75,-4.975) 24(-0.25,-4.975) 25(0.25,-4.975) 26(0.75,-4.975) 27(1.25,-4.975) 28(1.75,-4.975) 29(2.25,-4.975) 30(2.75,-4.975) 31(3.25,-4.975) 32(3.75,-4.975) 49(3.75,4.975) 50(3.25,4.975) 51(2.75,4.975) 52(2.25,4.975) 53(1.75,4.975) 54(1.25,4.975) 55(0.75,4.975) 56(0.25,4.975) 57(-0.25,4.975) 58(-0.75,4.975) 59(-1.25,4.975) 60(-1.75,4.975) 61(-2.25,4.975) 62(-2.75,4.975) 63(-3.25,4.975) 64(-3.75,4.975)
  rect 8.3x8.3 smd: 65(0,0)
via -3.6,3.6 diameter 0.66 hole 0.33
via -2.4,3.6 diameter 0.66 hole 0.33
via -1.2,3.6 diameter 0.66 hole 0.33
via 0,3.6 diameter 0.66 hole 0.33
via 1.2,3.6 diameter 0.66 hole 0.33
via 2.4,3.6 diameter 0.66 hole 0.33
via 3.6,3.6 diameter 0.66 hole 0.33
via -3.6,2.4 diameter 0.66 hole 0.33
via -2.4,2.4 diameter 0.66 hole 0.33
via -1.2,2.4 diameter 0.66 hole 0.33
via 0,2.4 diameter 0.66 hole 0.33
via 1.2,2.4 diameter 0.66 hole 0.33
via 2.4,2.4 diameter 0.66 hole 0.33
via 3.6,2.4 diameter 0.66 hole 0.33
via -3.6,1.2 diameter 0.66 hole 0.33
via -2.4,1.2 diameter 0.66 hole 0.33
via -1.2,1.2 diameter 0.66 hole 0.33
via 0,1.2 diameter 0.66 hole 0.33
via 1.2,1.2 diameter 0.66 hole 0.33
via 2.4,1.2 diameter 0.66 hole 0.33
via 3.6,1.2 diameter 0.66 hole 0.33
via -3.6,0 diameter 0.66 hole 0.33
via -2.4,0 diameter 0.66 hole 0.33
via -1.2,0 diameter 0.66 hole 0.33
via 0,0 diameter 0.66 hole 0.33
via 1.2,0 diameter 0.66 hole 0.33
via 2.4,0 diameter 0.66 hole 0.33
via 3.6,0 diameter 0.66 hole 0.33
via -3.6,-1.2 diameter 0.66 hole 0.33
via -2.4,-1.2 diameter 0.66 hole 0.33
via -1.2,-1.2 diameter 0.66 hole 0.33
via 0,-1.2 diameter 0.66 hole 0.33
via 1.2,-1.2 diameter 0.66 hole 0.33
via 2.4,-1.2 diameter 0.66 hole 0.33
via 3.6,-1.2 diameter 0.66 hole 0.33
via -3.6,-2.4 diameter 0.66 hole 0.33
via -2.4,-2.4 diameter 0.66 hole 0.33
via -1.2,-2.4 diameter 0.66 hole 0.33
via 0,-2.4 diameter 0.66 hole 0.33
via 1.2,-2.4 diameter 0.66 hole 0.33
via 2.4,-2.4 diameter 0.66 hole 0.33
via 3.6,-2.4 diameter 0.66 hole 0.33
via -3.6,-3.6 diameter 0.66 hole 0.33
via -2.4,-3.6 diameter 0.66 hole 0.33
via -1.2,-3.6 diameter 0.66 hole 0.33
via 0,-3.6 diameter 0.66 hole 0.33
via 1.2,-3.6 diameter 0.66 hole 0.33
via 2.4,-3.6 diameter 0.66 hole 0.33
via 3.6,-3.6 diameter 0.66 hole 0.33
Top Overlay:
  circle w0.25: c-6.05,3.75 r0.125
  lines w0.2: -5.1,-4.3 -5.1,-5.1 -4.3,-5.1 ; -5.1,4.3 -5.1,5.1 -4.3,5.1 ; 4.3,-5.1 5.1,-5.1 5.1,-4.3 ; 4.3,5.1 5.1,5.1 5.1,4.3
Mechanical 13:
  circle w0.1: c-4.175,4.175 r0.5
  lines w0.1: -5.075,-5.075 -5.075,5.075 5.075,5.075 5.075,-5.075 -5.075,-5.075
Mechanical 15:
  lines w0.1: -0.5,0 0.5,0 ; 0,-0.5 0,0.5 ; -6,-6 -6,6 6,6 6,-6 -6,-6
3D body: height 0.8, standoff 0, extent -5.075,-5.075 5.075,5.075

## QFN50P1000X1000-68V2M [mm] "QFN, 68-Leads, Body 10x10mm, Pitch 0.5mm, IPC Low Density"
height 1
pads (69):
  oval 1.05x0.3 smd: 1(-4.975,4) 2(-4.975,3.5) 3(-4.975,3) 4(-4.975,2.5) 5(-4.975,2) 6(-4.975,1.5) 7(-4.975,1) 8(-4.975,0.5) 9(-4.975,0) 10(-4.975,-0.5) 11(-4.975,-1) 12(-4.975,-1.5) 13(-4.975,-2) 14(-4.975,-2.5) 15(-4.975,-3) 16(-4.975,-3.5) 17(-4.975,-4) 35(4.975,-4) 36(4.975,-3.5) 37(4.975,-3) 38(4.975,-2.5) 39(4.975,-2) 40(4.975,-1.5) 41(4.975,-1) 42(4.975,-0.5) 43(4.975,0) 44(4.975,0.5) 45(4.975,1) 46(4.975,1.5) 47(4.975,2) 48(4.975,2.5) 49(4.975,3) 50(4.975,3.5) 51(4.975,4)
  oval 0.3x1.05 smd: 18(-4,-4.975) 19(-3.5,-4.975) 20(-3,-4.975) 21(-2.5,-4.975) 22(-2,-4.975) 23(-1.5,-4.975) 24(-1,-4.975) 25(-0.5,-4.975) 26(0,-4.975) 27(0.5,-4.975) 28(1,-4.975) 29(1.5,-4.975) 30(2,-4.975) 31(2.5,-4.975) 32(3,-4.975) 33(3.5,-4.975) 34(4,-4.975) 52(4,4.975) 53(3.5,4.975) 54(3,4.975) 55(2.5,4.975) 56(2,4.975) 57(1.5,4.975) 58(1,4.975) 59(0.5,4.975) 60(0,4.975) 61(-0.5,4.975) 62(-1,4.975) 63(-1.5,4.975) 64(-2,4.975) 65(-2.5,4.975) 66(-3,4.975) 67(-3.5,4.975) 68(-4,4.975)
  rect 8.3x8.3 smd: 69(0,0)
via -3.6,3.6 diameter 0.66 hole 0.33
via -2.4,3.6 diameter 0.66 hole 0.33
via -1.2,3.6 diameter 0.66 hole 0.33
via 0,3.6 diameter 0.66 hole 0.33
via 1.2,3.6 diameter 0.66 hole 0.33
via 2.4,3.6 diameter 0.66 hole 0.33
via 3.6,3.6 diameter 0.66 hole 0.33
via -3.6,2.4 diameter 0.66 hole 0.33
via -2.4,2.4 diameter 0.66 hole 0.33
via -1.2,2.4 diameter 0.66 hole 0.33
via 0,2.4 diameter 0.66 hole 0.33
via 1.2,2.4 diameter 0.66 hole 0.33
via 2.4,2.4 diameter 0.66 hole 0.33
via 3.6,2.4 diameter 0.66 hole 0.33
via -3.6,1.2 diameter 0.66 hole 0.33
via -2.4,1.2 diameter 0.66 hole 0.33
via -1.2,1.2 diameter 0.66 hole 0.33
via 0,1.2 diameter 0.66 hole 0.33
via 1.2,1.2 diameter 0.66 hole 0.33
via 2.4,1.2 diameter 0.66 hole 0.33
via 3.6,1.2 diameter 0.66 hole 0.33
via -3.6,0 diameter 0.66 hole 0.33
via -2.4,0 diameter 0.66 hole 0.33
via -1.2,0 diameter 0.66 hole 0.33
via 0,0 diameter 0.66 hole 0.33
via 1.2,0 diameter 0.66 hole 0.33
via 2.4,0 diameter 0.66 hole 0.33
via 3.6,0 diameter 0.66 hole 0.33
via -3.6,-1.2 diameter 0.66 hole 0.33
via -2.4,-1.2 diameter 0.66 hole 0.33
via -1.2,-1.2 diameter 0.66 hole 0.33
via 0,-1.2 diameter 0.66 hole 0.33
via 1.2,-1.2 diameter 0.66 hole 0.33
via 2.4,-1.2 diameter 0.66 hole 0.33
via 3.6,-1.2 diameter 0.66 hole 0.33
via -3.6,-2.4 diameter 0.66 hole 0.33
via -2.4,-2.4 diameter 0.66 hole 0.33
via -1.2,-2.4 diameter 0.66 hole 0.33
via 0,-2.4 diameter 0.66 hole 0.33
via 1.2,-2.4 diameter 0.66 hole 0.33
via 2.4,-2.4 diameter 0.66 hole 0.33
via 3.6,-2.4 diameter 0.66 hole 0.33
via -3.6,-3.6 diameter 0.66 hole 0.33
via -2.4,-3.6 diameter 0.66 hole 0.33
via -1.2,-3.6 diameter 0.66 hole 0.33
via 0,-3.6 diameter 0.66 hole 0.33
via 1.2,-3.6 diameter 0.66 hole 0.33
via 2.4,-3.6 diameter 0.66 hole 0.33
via 3.6,-3.6 diameter 0.66 hole 0.33
Top Overlay:
  circle w0.25: c-6.05,4 r0.125
  lines w0.2: -5.1,-4.55 -5.1,-5.1 -4.55,-5.1 ; -5.1,4.55 -5.1,5.1 -4.55,5.1 ; 4.55,-5.1 5.1,-5.1 5.1,-4.55 ; 4.55,5.1 5.1,5.1 5.1,4.55
Mechanical 13:
  circle w0.1: c-4.175,4.175 r0.5
  lines w0.1: -5.075,-5.075 -5.075,5.075 5.075,5.075 5.075,-5.075 -5.075,-5.075
Mechanical 15:
  lines w0.1: -0.5,0 0.5,0 ; 0,-0.5 0,0.5 ; -6,-6 -6,6 6,6 6,-6 -6,-6
3D body: height 1, standoff 0, extent -5.075,-5.075 5.075,5.075

## QFN50P1000X1000-68VAM [mm] "68-Pin Plastic Quad Flat No-Lead 0.5 mm Pitch"
height 1
pads (69):
  oval 1.15x0.25 smd: 1(-4.925,4) 2(-4.925,3.5) 3(-4.925,3) 4(-4.925,2.5) 5(-4.925,2) 6(-4.925,1.5) 7(-4.925,1) 8(-4.925,0.5) 9(-4.925,0) 10(-4.925,-0.5) 11(-4.925,-1) 12(-4.925,-1.5) 13(-4.925,-2) 14(-4.925,-2.5) 15(-4.925,-3) 16(-4.925,-3.5) 17(-4.925,-4) 35(4.925,-4) 36(4.925,-3.5) 37(4.925,-3) 38(4.925,-2.5) 39(4.925,-2) 40(4.925,-1.5) 41(4.925,-1) 42(4.925,-0.5) 43(4.925,0) 44(4.925,0.5) 45(4.925,1) 46(4.925,1.5) 47(4.925,2) 48(4.925,2.5) 49(4.925,3) 50(4.925,3.5) 51(4.925,4)
  oval 0.25x1.15 smd: 18(-4,-4.925) 19(-3.5,-4.925) 20(-3,-4.925) 21(-2.5,-4.925) 22(-2,-4.925) 23(-1.5,-4.925) 24(-1,-4.925) 25(-0.5,-4.925) 26(0,-4.925) 27(0.5,-4.925) 28(1,-4.925) 29(1.5,-4.925) 30(2,-4.925) 31(2.5,-4.925) 32(3,-4.925) 33(3.5,-4.925) 34(4,-4.925) 52(4,4.925) 53(3.5,4.925) 54(3,4.925) 55(2.5,4.925) 56(2,4.925) 57(1.5,4.925) 58(1,4.925) 59(0.5,4.925) 60(0,4.925) 61(-0.5,4.925) 62(-1,4.925) 63(-1.5,4.925) 64(-2,4.925) 65(-2.5,4.925) 66(-3,4.925) 67(-3.5,4.925) 68(-4,4.925)
  rect 7.9x7.9 smd: 69(0,0)
via -3.6,3.6 diameter 0.66 hole 0.33
via -2.4,3.6 diameter 0.66 hole 0.33
via -1.2,3.6 diameter 0.66 hole 0.33
via 0,3.6 diameter 0.66 hole 0.33
via 1.2,3.6 diameter 0.66 hole 0.33
via 2.4,3.6 diameter 0.66 hole 0.33
via 3.6,3.6 diameter 0.66 hole 0.33
via -3.6,2.4 diameter 0.66 hole 0.33
via -2.4,2.4 diameter 0.66 hole 0.33
via -1.2,2.4 diameter 0.66 hole 0.33
via 0,2.4 diameter 0.66 hole 0.33
via 1.2,2.4 diameter 0.66 hole 0.33
via 2.4,2.4 diameter 0.66 hole 0.33
via 3.6,2.4 diameter 0.66 hole 0.33
via -3.6,1.2 diameter 0.66 hole 0.33
via -2.4,1.2 diameter 0.66 hole 0.33
via -1.2,1.2 diameter 0.66 hole 0.33
via 0,1.2 diameter 0.66 hole 0.33
via 1.2,1.2 diameter 0.66 hole 0.33
via 2.4,1.2 diameter 0.66 hole 0.33
via 3.6,1.2 diameter 0.66 hole 0.33
via -3.6,0 diameter 0.66 hole 0.33
via -2.4,0 diameter 0.66 hole 0.33
via -1.2,0 diameter 0.66 hole 0.33
via 0,0 diameter 0.66 hole 0.33
via 1.2,0 diameter 0.66 hole 0.33
via 2.4,0 diameter 0.66 hole 0.33
via 3.6,0 diameter 0.66 hole 0.33
via -3.6,-1.2 diameter 0.66 hole 0.33
via -2.4,-1.2 diameter 0.66 hole 0.33
via -1.2,-1.2 diameter 0.66 hole 0.33
via 0,-1.2 diameter 0.66 hole 0.33
via 1.2,-1.2 diameter 0.66 hole 0.33
via 2.4,-1.2 diameter 0.66 hole 0.33
via 3.6,-1.2 diameter 0.66 hole 0.33
via -3.6,-2.4 diameter 0.66 hole 0.33
via -2.4,-2.4 diameter 0.66 hole 0.33
via -1.2,-2.4 diameter 0.66 hole 0.33
via 0,-2.4 diameter 0.66 hole 0.33
via 1.2,-2.4 diameter 0.66 hole 0.33
via 2.4,-2.4 diameter 0.66 hole 0.33
via 3.6,-2.4 diameter 0.66 hole 0.33
via -3.6,-3.6 diameter 0.66 hole 0.33
via -2.4,-3.6 diameter 0.66 hole 0.33
via -1.2,-3.6 diameter 0.66 hole 0.33
via 0,-3.6 diameter 0.66 hole 0.33
via 1.2,-3.6 diameter 0.66 hole 0.33
via 2.4,-3.6 diameter 0.66 hole 0.33
via 3.6,-3.6 diameter 0.66 hole 0.33
Top Overlay:
  circle w0.25: c-6.05,4 r0.125
  lines w0.2: -5.1,-4.525 -5.1,-5.1 -4.525,-5.1 ; -5.1,4.525 -5.1,5.1 -4.525,5.1 ; 4.525,-5.1 5.1,-5.1 5.1,-4.525 ; 4.525,5.1 5.1,5.1 5.1,4.525
Mechanical 13:
  circle w0.1: c-4.175,4.175 r0.5
  lines w0.1: -5.075,-5.075 -5.075,5.075 5.075,5.075 5.075,-5.075 -5.075,-5.075
Mechanical 15:
  lines w0.1: -0.5,0 0.5,0 ; 0,-0.5 0,0.5 ; -6,-6 -6,6 6,6 6,-6 -6,-6
3D body: height 1, standoff 0, extent -5.075,-5.075 5.075,5.075

## QFN50P1000X1000-68W2M [mm] "QFN, 68-Leads, Body 10x10mm, Pitch 0.5mm, IPC Low Density"
height 0.8
pads (69):
  oval 1.05x0.3 smd: 1(-4.975,4) 2(-4.975,3.5) 3(-4.975,3) 4(-4.975,2.5) 5(-4.975,2) 6(-4.975,1.5) 7(-4.975,1) 8(-4.975,0.5) 9(-4.975,0) 10(-4.975,-0.5) 11(-4.975,-1) 12(-4.975,-1.5) 13(-4.975,-2) 14(-4.975,-2.5) 15(-4.975,-3) 16(-4.975,-3.5) 17(-4.975,-4) 35(4.975,-4) 36(4.975,-3.5) 37(4.975,-3) 38(4.975,-2.5) 39(4.975,-2) 40(4.975,-1.5) 41(4.975,-1) 42(4.975,-0.5) 43(4.975,0) 44(4.975,0.5) 45(4.975,1) 46(4.975,1.5) 47(4.975,2) 48(4.975,2.5) 49(4.975,3) 50(4.975,3.5) 51(4.975,4)
  oval 0.3x1.05 smd: 18(-4,-4.975) 19(-3.5,-4.975) 20(-3,-4.975) 21(-2.5,-4.975) 22(-2,-4.975) 23(-1.5,-4.975) 24(-1,-4.975) 25(-0.5,-4.975) 26(0,-4.975) 27(0.5,-4.975) 28(1,-4.975) 29(1.5,-4.975) 30(2,-4.975) 31(2.5,-4.975) 32(3,-4.975) 33(3.5,-4.975) 34(4,-4.975) 52(4,4.975) 53(3.5,4.975) 54(3,4.975) 55(2.5,4.975) 56(2,4.975) 57(1.5,4.975) 58(1,4.975) 59(0.5,4.975) 60(0,4.975) 61(-0.5,4.975) 62(-1,4.975) 63(-1.5,4.975) 64(-2,4.975) 65(-2.5,4.975) 66(-3,4.975) 67(-3.5,4.975) 68(-4,4.975)
  rect 8.3x8.3 smd: 69(0,0)
via -3.6,3.6 diameter 0.66 hole 0.33
via -2.4,3.6 diameter 0.66 hole 0.33
via -1.2,3.6 diameter 0.66 hole 0.33
via 0,3.6 diameter 0.66 hole 0.33
via 1.2,3.6 diameter 0.66 hole 0.33
via 2.4,3.6 diameter 0.66 hole 0.33
via 3.6,3.6 diameter 0.66 hole 0.33
via -3.6,2.4 diameter 0.66 hole 0.33
via -2.4,2.4 diameter 0.66 hole 0.33
via -1.2,2.4 diameter 0.66 hole 0.33
via 0,2.4 diameter 0.66 hole 0.33
via 1.2,2.4 diameter 0.66 hole 0.33
via 2.4,2.4 diameter 0.66 hole 0.33
via 3.6,2.4 diameter 0.66 hole 0.33
via -3.6,1.2 diameter 0.66 hole 0.33
via -2.4,1.2 diameter 0.66 hole 0.33
via -1.2,1.2 diameter 0.66 hole 0.33
via 0,1.2 diameter 0.66 hole 0.33
via 1.2,1.2 diameter 0.66 hole 0.33
via 2.4,1.2 diameter 0.66 hole 0.33
via 3.6,1.2 diameter 0.66 hole 0.33
via -3.6,0 diameter 0.66 hole 0.33
via -2.4,0 diameter 0.66 hole 0.33
via -1.2,0 diameter 0.66 hole 0.33
via 0,0 diameter 0.66 hole 0.33
via 1.2,0 diameter 0.66 hole 0.33
via 2.4,0 diameter 0.66 hole 0.33
via 3.6,0 diameter 0.66 hole 0.33
via -3.6,-1.2 diameter 0.66 hole 0.33
via -2.4,-1.2 diameter 0.66 hole 0.33
via -1.2,-1.2 diameter 0.66 hole 0.33
via 0,-1.2 diameter 0.66 hole 0.33
via 1.2,-1.2 diameter 0.66 hole 0.33
via 2.4,-1.2 diameter 0.66 hole 0.33
via 3.6,-1.2 diameter 0.66 hole 0.33
via -3.6,-2.4 diameter 0.66 hole 0.33
via -2.4,-2.4 diameter 0.66 hole 0.33
via -1.2,-2.4 diameter 0.66 hole 0.33
via 0,-2.4 diameter 0.66 hole 0.33
via 1.2,-2.4 diameter 0.66 hole 0.33
via 2.4,-2.4 diameter 0.66 hole 0.33
via 3.6,-2.4 diameter 0.66 hole 0.33
via -3.6,-3.6 diameter 0.66 hole 0.33
via -2.4,-3.6 diameter 0.66 hole 0.33
via -1.2,-3.6 diameter 0.66 hole 0.33
via 0,-3.6 diameter 0.66 hole 0.33
via 1.2,-3.6 diameter 0.66 hole 0.33
via 2.4,-3.6 diameter 0.66 hole 0.33
via 3.6,-3.6 diameter 0.66 hole 0.33
Top Overlay:
  circle w0.25: c-6.05,4 r0.125
  lines w0.2: -5.1,-4.55 -5.1,-5.1 -4.55,-5.1 ; -5.1,4.55 -5.1,5.1 -4.55,5.1 ; 4.55,-5.1 5.1,-5.1 5.1,-4.55 ; 4.55,5.1 5.1,5.1 5.1,4.55
Mechanical 13:
  circle w0.1: c-4.175,4.175 r0.5
  lines w0.1: -5.075,-5.075 -5.075,5.075 5.075,5.075 5.075,-5.075 -5.075,-5.075
Mechanical 15:
  lines w0.1: -0.5,0 0.5,0 ; 0,-0.5 0,0.5 ; -6,-6 -6,6 6,6 6,-6 -6,-6
3D body: height 0.8, standoff 0, extent -5.075,-5.075 5.075,5.075